# EAGLE library part EPM3032ALC44-10N (library CasaLibrary)
IC PLD EEPROM
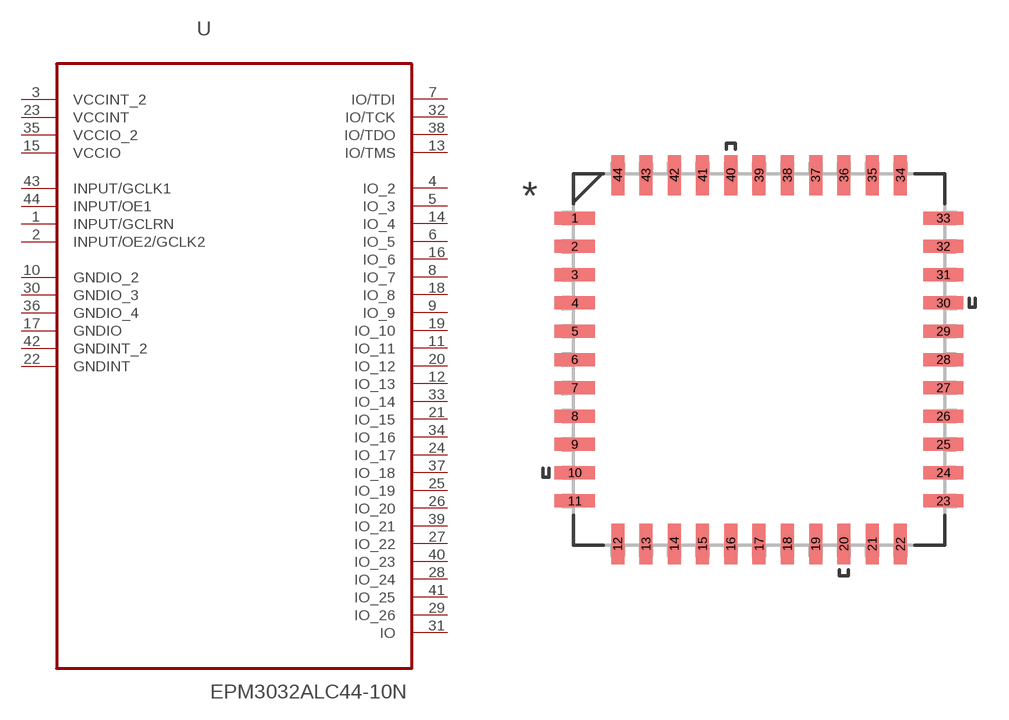
[diagram p15: symbol with the pads of PLCC127P1752X1752X457-44N; footprint PLCC127P1752X1752X457-44N]

Designator prefix -

## EPM3032ALC44-10N (MPN: EPM3032ALC44-10N; OC_FARNELL: -; OC_NEWARK: 51R0499; PACKAGE: PLCC-44; SUPPLIER: ALTERA)  [PLCC127P1752X1752X457-44N]
1  INPUT/GCLRN  in
2  INPUT/OE2/GCLK2  in
3  VCCINT_2  pwr
4  IO_2
5  IO_3
6  IO_5
7  IO/TDI
8  IO_7
9  IO_9
10  GNDIO_2  pas
11  IO_11
12  IO_13
13  IO/TMS
14  IO_4
15  VCCIO  pwr
16  IO_6
17  GNDIO  pas
18  IO_8
19  IO_10
20  IO_12
21  IO_15
22  GNDINT  pas
23  VCCINT  pwr
24  IO_17
25  IO_19
26  IO_20
27  IO_22
28  IO_24
29  IO_26
30  GNDIO_3  pas
31  IO
32  IO/TCK
33  IO_14
34  IO_16
35  VCCIO_2  pwr
36  GNDIO_4  pas
37  IO_18
38  IO/TDO
39  IO_21
40  IO_23
41  IO_25
42  GNDINT_2  pas
43  INPUT/GCLK1  in
44  INPUT/OE1  in

## Footprint PLCC127P1752X1752X457-44N (pad centres in mm)
smd 1.803 x 0.584: 1 -8.28,6.35; 2 -8.28,5.08; 3 -8.28,3.81; 4 -8.28,2.54; 5 -8.28,1.27; 6 -8.28,0; 7 -8.28,-1.27; 8 -8.28,-2.54; 9 -8.28,-3.81; 10 -8.28,-5.08; 11 -8.28,-6.35; 23 8.28,-6.35; 24 8.28,-5.08; 25 8.28,-3.81; 26 8.28,-2.54; 27 8.28,-1.27; 28 8.28,0; 29 8.28,1.27; 30 8.28,2.54; 31 8.28,3.81; 32 8.28,5.08; 33 8.28,6.35
smd 0.584 x 1.803: 12 -6.35,-8.28; 13 -5.08,-8.28; 14 -3.81,-8.28; 15 -2.54,-8.28; 16 -1.27,-8.28; 17 0,-8.28; 18 1.27,-8.28; 19 2.54,-8.28; 20 3.81,-8.28; 21 5.08,-8.28; 22 6.35,-8.28; 34 6.35,8.28; 35 5.08,8.28; 36 3.81,8.28; 37 2.54,8.28; 38 1.27,8.28; 39 0,8.28; 40 -1.27,8.28; 41 -2.54,8.28; 42 -3.81,8.28; 43 -5.08,8.28; 44 -6.35,8.28